# EAGLE library part TSL2591 (library FlashPCB_Sensors)
TSL2591 - Optical Sensor Ambient - IÃƒÆ’Ã¢â‚¬Å¡Ãƒâ€šÃ‚Â²C 6-WFDFN Technical Specifications: Dynamic Range: 600M:1 Voltage Supply: 2.7V ~ 3.6V Component Search: [DATA SHEET NAME] <[FLASHPCB URL]> Datasheet: TSL2591 <https://ams.com/documents/20143/36005/TSL2591_DS000338_6-00.pdf>
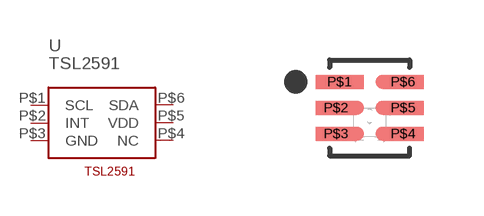
[diagram p28: symbol with the pads of TSL2591; footprint TSL2591]

Designator prefix U

## TSL2591  [TSL2591]
P$1  SCL
P$2  INT
P$3  GND  pwr
P$4  NC  nc
P$5  VDD  pwr
P$6  SDA

## Footprint TSL2591 (pad centres in mm)
smd 1.2 x 0.35: P$1 -0.75,0.65
smd 1.025 x 0.35: P$2 -0.838,0; P$3 -0.838,-0.65; P$4 0.838,-0.65; P$5 0.838,0; P$6 0.838,0.65